# Altium schematic symbol library Power_chip.SchLib: 2 symbols
Pins are listed as number, name and electrical type; pins without a type are passive.

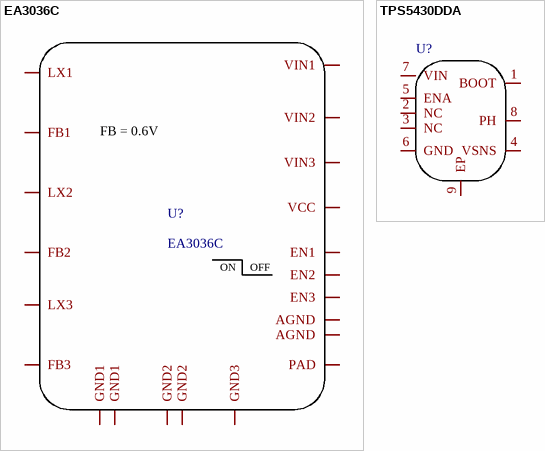
[diagram p0: symbols EA3036C to TPS5430DDA]

## EA3036C
designator U?
footprint WQFN-20_L3.0-W3.0-P0.40-BL-EP (Footprint not found)
pins: 1 GND3, 2 FB3, 3 FB2, 4 GND2, 5 GND2, 6 LX2, 7 VIN2, 8 EN2, 9 EN1, 10 VIN1, 11 LX1, 12 GND1, 13 GND1, 14 FB1, 15 AGND, 16 VCC, 17 AGND, 18 EN3, 19 VIN3, 20 LX3, 21 PAD
text: FB = 0.6V; ON; OFF

## TPS5430DDA
designator U?  (value not drawn)
功能类型:降压型;同步整流:否;输出类型:可调;输出通道数:1;拓扑结构:降压式;输入电压:5.5V~36V;输出电压:1.221V~32.04V;输出电流(最大值):3A;开关频率:500kHz;工作温度:-40℃~+125℃@(TJ);; Manufacturer: TI(德州仪器); Add into BOM: yes; Function: 降压型; Synchronous Rectification: 否; Output Type: 可调; Number of Outputs: 1; Topology: 降压式; Output Current (Max): 3A; Switching Frequency: 500kHz; Name: TPS5430DDA; Symbol: TPS5430DDA; Device: TPS5430DDA; LCSC Part Name: 降压型Vin=5.5V~36VVout=1.221V~32.04V3A; Supplier Part: C502477; Manufacturer Part: TPS5430DDA; Supplier Footprint: ESOP-8; JLCPCB Part Class: ExtendedPart; Datasheet: https://atta.szlcsc.com/upload/public/pdf/source/20200402/C502477_C195E9F29489A337252CB245AFB38C93.pdf; Supplier: LCSC; Convert to PCB: yes; Input Voltage: 5.5V~36V; Output Voltage: 1.221V~32.04V; Operating Temperature: -40℃~+125℃@(TJ); NO_CONNECT: yes
footprint ESOP-8_L4.9-W3.9-P1.27-LS6.0-BL-EP-2
3D model ESOP-8_L4.9-W3.9-P1.27-LS6.0-BL-EP-2
pins: 1 BOOT, 2 NC, 3 NC, 4 VSNS, 5 ENA, 6 GND, 7 VIN, 8 PH, 9 EP